# Altium schematic symbol library SFP200F.SchLib: 1 symbol
Pins are listed as number, name and electrical type; pins without a type are passive.

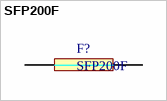
[diagram p0: symbol SFP200F]

## SFP200F
designator F?
Surface Mount Fuses VERY FAST GLASS CER 63V 2A SZ 1206
footprint DIOC3216X12N (Chip Fuse, 2-Leads, Body 3.20x1.60mm, IPC Medium Density)
pins: 1, 2